# Altium schematic symbol library OSC-4-PIN.SchLib: 1 symbol
Pins are listed as number, name and electrical type; pins without a type are passive.

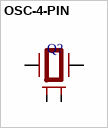
[diagram p0: symbol OSC-4-PIN]

## OSC-4-PIN
designator Q?
footprint OSC-QSMD3.2x2.5x1.0
footprint OSC-QSMD2.0x1.6x0.55
footprint OSC-QSMD3.2x2.5x0.8
footprint Model Name (Footprint not found)
pins: 1, 2, 3, 4